# EAGLE library part VNC2-48L1B (library FTDI_By_element14_Batch_1)
Vinculum-II Embedded Dual USB Host Controller IC
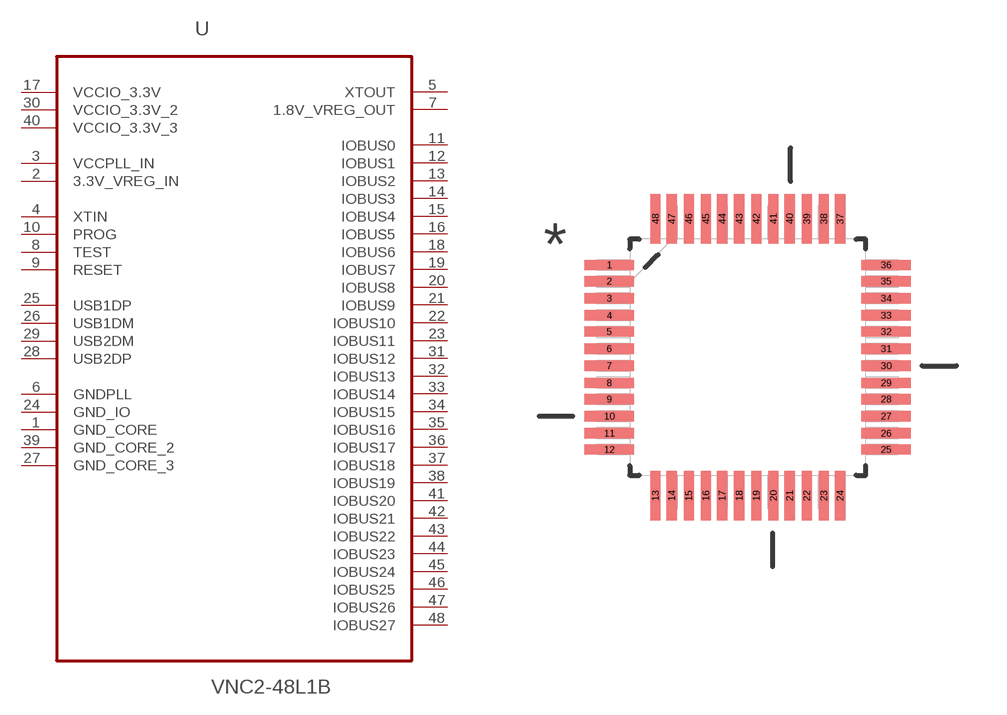
[diagram p2: symbol with the pads of QFP50P900X900X160-48N; footprint QFP50P900X900X160-48N]

Designator prefix U

## VNC2-48L1B (MPN: VNC2-48L1B; OC_FARNELL: 1863856; OC_NEWARK: 27T5920; PACKAGE: LQFP-48; SUPPLIER: FTDI)  [QFP50P900X900X160-48N]
1  GND_CORE  pas
2  3.3V_VREG_IN  in
3  VCCPLL_IN  pwr
4  XTIN  in
5  XTOUT  out
6  GNDPLL  pas
7  1.8V_VREG_OUT  out
8  TEST  in
9  RESET  in
10  PROG  in
11  IOBUS0
12  IOBUS1
13  IOBUS2
14  IOBUS3
15  IOBUS4
16  IOBUS5
17  VCCIO_3.3V
18  IOBUS6
19  IOBUS7
20  IOBUS8
21  IOBUS9
22  IOBUS10
23  IOBUS11
24  GND_IO  pas
25  USB1DP
26  USB1DM
27  GND_CORE_3  pas
28  USB2DP
29  USB2DM
30  VCCIO_3.3V_2  pwr
31  IOBUS12
32  IOBUS13
33  IOBUS14
34  IOBUS15
35  IOBUS16
36  IOBUS17
37  IOBUS18
38  IOBUS19
39  GND_CORE_2  pas
40  VCCIO_3.3V_3  pwr
41  IOBUS20
42  IOBUS21
43  IOBUS22
44  IOBUS23
45  IOBUS24
46  IOBUS25
47  IOBUS26
48  IOBUS27

## Footprint QFP50P900X900X160-48N (pad centres in mm)
smd 1.473 x 0.305: 1 -4.115,2.743; 2 -4.115,2.261; 3 -4.115,1.753; 4 -4.115,1.245; 5 -4.115,0.762; 6 -4.115,0.254; 7 -4.115,-0.254; 8 -4.115,-0.762; 9 -4.115,-1.245; 10 -4.115,-1.753; 11 -4.115,-2.261; 12 -4.115,-2.743; 25 4.115,-2.743; 26 4.115,-2.261; 27 4.115,-1.753; 28 4.115,-1.245; 29 4.115,-0.762; 30 4.115,-0.254; 31 4.115,0.254; 32 4.115,0.762; 33 4.115,1.245; 34 4.115,1.753; 35 4.115,2.261; 36 4.115,2.743
smd 0.305 x 1.473: 13 -2.743,-4.115; 14 -2.261,-4.115; 15 -1.753,-4.115; 16 -1.245,-4.115; 17 -0.762,-4.115; 18 -0.254,-4.115; 19 0.254,-4.115; 20 0.762,-4.115; 21 1.245,-4.115; 22 1.753,-4.115; 23 2.261,-4.115; 24 2.743,-4.115; 37 2.743,4.115; 38 2.261,4.115; 39 1.753,4.115; 40 1.245,4.115; 41 0.762,4.115; 42 0.254,4.115; 43 -0.254,4.115; 44 -0.762,4.115; 45 -1.245,4.115; 46 -1.753,4.115; 47 -2.261,4.115; 48 -2.743,4.115